# Altium footprint library REGULATOR.PcbLib: 10 footprints
Each footprint in its own frame and in the unit in brackets; x right, y up, seen from the top. Pads: shape width x height; smd on the part's side, far side on the other; paste and mask are expansions set on the pad; w line width, h text height; cw(c..) or ccw(c..) is an arc to the next point about the centre after c.
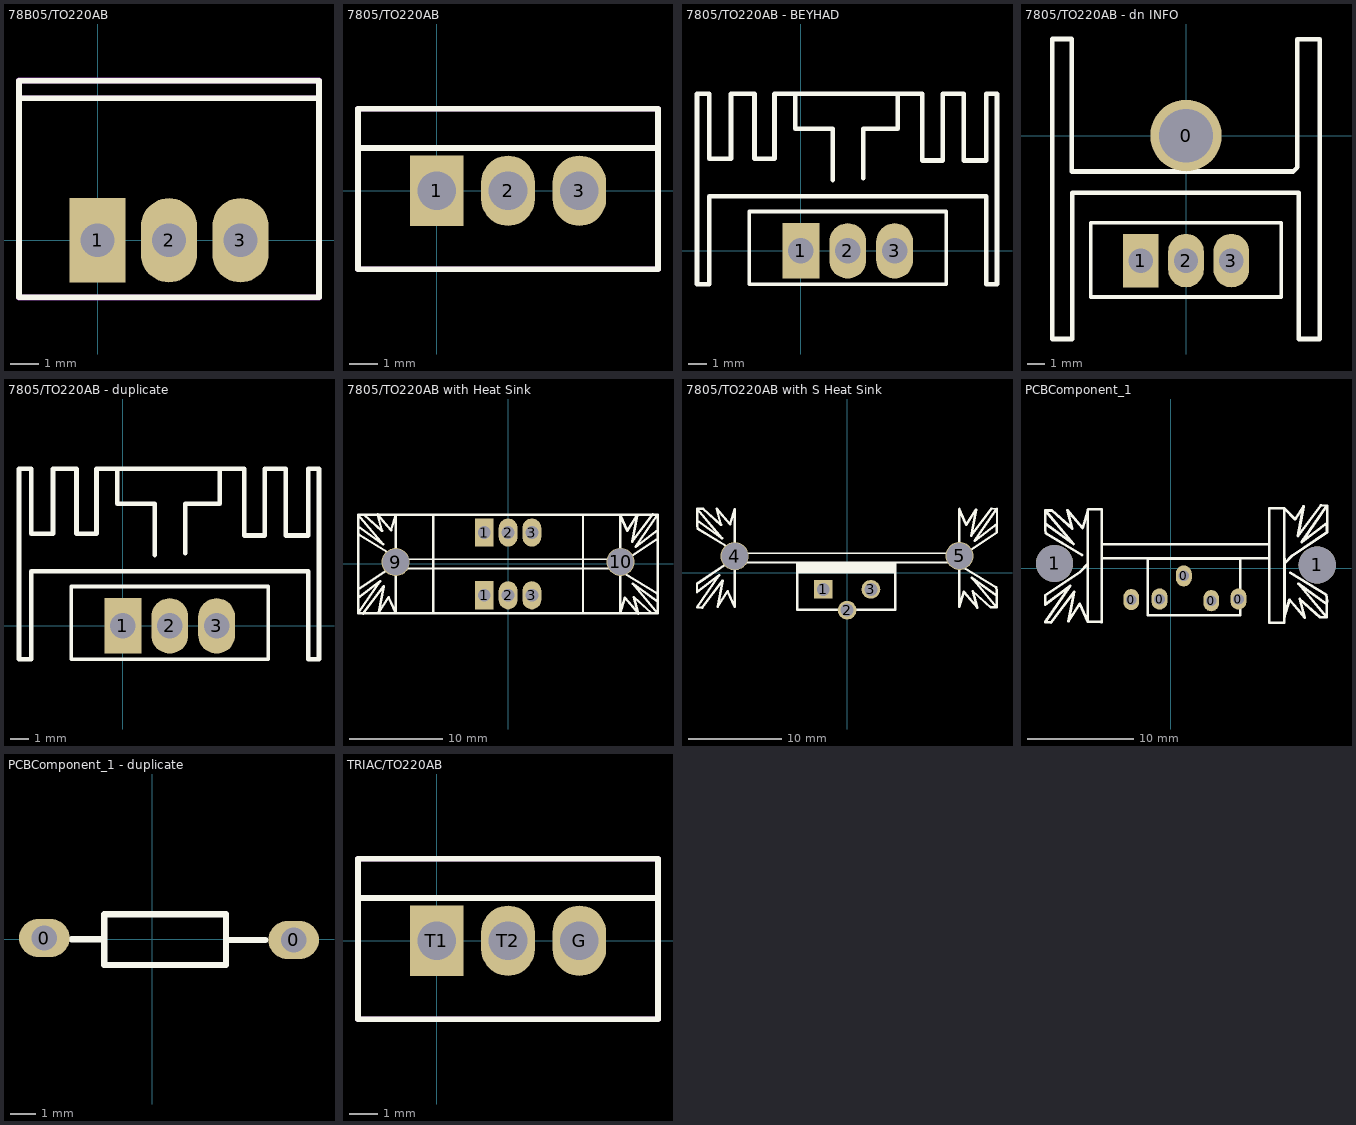
[diagram p0: the footprints below, top view; thin cyan lines are the x and y axes]

## 78B05/TO220AB [mm]
pads (3):
  rect 2x3 / inner round 1.524 / far side rect 2x3 hole 1.2: 1(0,0)
  oval 2x3 / inner round 1.524 / far side oval 2x3 hole 1.2: 2(2.54,0) 3(5.08,0)
Top Overlay:
  lines w0.203: -2.794,5.05 7.874,5.05 ; -2.794,-2.022 7.874,-2.022 7.874,5.669 -2.794,5.669 -2.794,-2.022
Mechanical 1:
  lines w0.203: -2.794,5.05 7.874,5.05 ; -2.794,-2.032 7.874,-2.032 7.874,5.679 -2.794,5.679 -2.794,-2.032

## 7805/TO220AB [mm]
pads (3):
  rect 1.905x2.5 hole 1.372: 1(0,0)
  oval 1.905x2.5 hole 1.372: 2(2.54,0) 3(5.08,0)
Top Overlay:
  lines w0.203: -2.794,1.524 7.874,1.524 ; -2.794,-2.794 7.874,-2.794 7.874,2.921 -2.794,2.921 -2.794,-2.794
Mechanical 1:
  lines w0.203: -2.794,1.524 7.874,1.524 ; -2.794,-2.794 7.874,-2.794 7.874,2.921 -2.794,2.921 -2.794,-2.794

## 7805/TO220AB - BEYHAD [mm]
pads (3):
  rect 2x3 hole 1.372: 1(0,0)
  oval 2x3 hole 1.372: 2(2.54,0) 3(5.08,0)
Top Overlay:
  lines w0.203: -2.794,-1.8 7.874,-1.8 7.874,2.13 -2.794,2.13 -2.794,-1.8
  lines w0.25: -0.304,8.46 -0.304,6.61 1.736,6.61 1.736,3.84 ; 3.376,3.93 3.376,6.61 5.256,6.61 5.256,8.46
  lines w0.254: -5.62,-1.8 -5.62,3.66 -5.62,8.5 -4.96,8.5 -4.96,4.99 -3.78,4.99 -3.78,8.5 -2.51,8.5 -2.51,4.99 -1.42,4.99 -1.42,8.5 1.01,8.5 5.05,8.5 6.58,8.5 6.58,4.89 7.68,4.89 7.68,8.5 8.82,8.5 8.82,4.89 10.04,4.89 10.04,8.5 10.62,8.5 10.62,-1.8 10.04,-1.8 10.04,2.96 -4.96,2.96 -4.96,-1.8 -5.62,-1.8

## 7805/TO220AB - dn INFO [mm]
pads (4):
  round 4 hole 3: 0(0,0)
  rect 2x3 hole 1.372: 1(-2.54,-7)
  oval 2x3 hole 1.372: 2(0,-7) 3(2.54,-7)
Top Overlay:
  lines w0.203: -5.334,-9.04 -5.334,-4.87 5.334,-4.87 5.334,-9.04 -5.334,-9.04
  lines w0.254: -6.059,-2.01 -3.96,-2.01 6.01,-2.01 6.24,-1.78 6.24,5.4 7.5,5.4 7.5,-3.92 7.5,-9.659 7.5,-11.39 6.32,-11.39 6.32,-3.19 -6.38,-3.19 -6.38,-11.39 -7.5,-11.39 -7.5,-4 -7.5,5.41 -6.39,5.41 -6.39,-2.01 -5.93,-2.01

## 7805/TO220AB - duplicate [mm]
pads (3):
  rect 2x3 hole 1.372: 1(0,0)
  oval 2x3 hole 1.372: 2(2.54,0) 3(5.08,0)
Top Overlay:
  lines w0.203: -2.794,-1.8 -2.794,2.13 7.874,2.13 7.874,-1.8 -2.794,-1.8
  lines w0.25: -0.304,8.46 -0.304,6.61 1.736,6.61 1.736,3.84 ; 3.376,3.93 3.376,6.61 5.256,6.61 5.256,8.46
  lines w0.254: -5.62,-1.8 -4.96,-1.8 -4.96,2.96 10.04,2.96 10.04,-1.8 10.62,-1.8 10.62,8.5 10.04,8.5 10.04,4.89 8.82,4.89 8.82,8.5 7.68,8.5 7.68,4.89 6.58,4.89 6.58,8.5 5.05,8.5 1.01,8.5 -1.42,8.5 -1.42,4.99 -2.51,4.99 -2.51,8.5 -3.78,8.5 -3.78,4.99 -4.96,4.99 -4.96,8.5 -5.62,8.5 -5.62,3.66 -5.62,-1.8

## 7805/TO220AB with Heat Sink [mm]
pads (8):
  rect 2x3 hole 1.372: 1(-2.54,-3.35) 1(-2.54,3.35)
  oval 2x3 hole 1.372: 2(0,-3.35) 2(0,3.35) 3(2.54,-3.35) 3(2.54,3.35)
  round 3 hole 2.8: 9(-12,0.19) 10(12,0.22)
Top Overlay:
  lines w0.203: -12,-0.5 -12,0.5 12,0.5 12,-0.5 -12,-0.5 ; 11.97,-0.52 11.97,0.48 11.97,-0.52
  lines w0.254: -12.55,1.06 -15.95,3.12 -16,3.44 ; -8.01,-5.26 ccw(c-8.034,-5.236) -8,-5.236 -8,-0.01 -8,5.206 cw(c-7.966,5.206) -7.99,5.23 ; 8,-5.22 8,-0.01 8,5.23 ; 11.02,5.23 15.97,5.23 ; 11.03,-5.27 15.97,-5.27 ; 11.05,5.25 16,5.25 16,3.56 16,-2.179 16,-5.25 11.04,-5.25 -11.05,-5.25 -16,-5.25 ; 12,-5.23 12,0.22 12,5.24 ; 12.52,-1.08 15.92,-3.14 15.97,-3.46 ; 14.55,5.25 -11.06,5.25 -16,5.25 ; -16,-5.25 -13.65,-1.84 -16.02,-3.64 -16.02,-2.75 -12.738,-0.548 -12,0.19 ; -16,-5.25 -15.46,-5.3 -13.28,-2.4 -13.81,-5.2 -12.75,-3.55 -12,-5.22 -12,0.19 ; -16,-5.25 -16,3.44 ; -16,3.44 -16.02,3.7 -15.98,4.01 -13.34,2.09 -16,5.25 ; -16,3.44 -16,5.25 ; -16,5.25 -15.37,5.25 -13.45,3.53 -13.93,5.28 -12.49,3.6 -12,5.2 -12,0.19 ; 11.97,-5.22 11.97,-0.21 ; 11.97,-5.22 12.46,-3.62 13.9,-5.3 13.42,-3.55 15.34,-5.27 15.97,-5.27 ; 11.97,-5.22 11.97,-0.21 ; 11.97,-0.21 11.97,5.2 ; 11.97,-0.21 12.708,0.528 ; 11.97,-0.21 12.708,0.528 ; 11.97,-0.21 11.97,5.2 ; 11.97,5.2 12.72,3.53 13.78,5.18 13.25,2.38 15.43,5.28 15.97,5.23 ; 12.708,0.528 15.99,2.73 15.99,3.62 13.62,1.82 15.97,5.23 ; 15.97,-5.27 13.31,-2.11 15.95,-4.03 15.99,-3.72 15.97,-3.46 ; 15.97,-5.27 15.97,-3.46 ; 15.97,-3.46 15.97,5.23

## 7805/TO220AB with S Heat Sink [mm]
pads (5):
  rect 2x2 hole 1.372: 1(-2.54,-1.785)
  round 2 hole 1.372: 2(0,-4) 3(2.54,-1.785)
  round 3 hole 2.8: 4(-12,1.755) 5(12,1.785)
Top Overlay:
  rectangle: -5.43,-0.075 5.17,1.085
  lines w0.203: -12,1.065 12,1.065 12,2.065 -12,2.065 -12,1.065 ; 11.97,1.045 11.97,2.045 11.97,1.045
  lines w0.254: -12.55,2.625 -15.95,4.685 -16,5.005 ; -5.32,1.055 -5.32,-3.975 5.16,-3.975 5.16,1.015 5.17,1.025 ; 12,-3.665 12,1.785 12,6.805 ; 12.52,0.485 15.92,-1.575 15.97,-1.895 ; 16,5.125 16,6.815 ; -16,5.005 -16,6.815 ; -16,5.005 -16.02,5.265 -15.98,5.575 -13.34,3.655 -16,6.815 ; -16,6.815 -15.37,6.815 -13.45,5.095 -13.93,6.845 -12.49,5.165 -12,6.765 -12,1.755 ; -12,1.755 -12,-3.655 -12.75,-1.985 -13.81,-3.635 -13.28,-0.835 -15.46,-3.735 -16,-3.685 -13.65,-0.275 -16.02,-2.075 -16.02,-1.185 -12.738,1.017 -12,1.755 ; 11.97,-3.655 11.97,1.355 ; 11.97,-3.655 12.46,-2.055 13.9,-3.735 13.42,-1.985 15.34,-3.705 15.97,-3.705 ; 11.97,-3.655 11.97,1.355 ; 11.97,1.355 11.97,6.765 ; 11.97,1.355 12.708,2.093 ; 11.97,1.355 12.708,2.093 ; 11.97,1.355 11.97,6.765 ; 11.97,6.765 12.72,5.095 13.78,6.745 13.25,3.945 15.43,6.845 15.97,6.795 13.62,3.385 15.99,5.185 15.99,4.295 12.708,2.093 ; 15.97,-3.705 15.97,-1.895 ; 15.97,-3.705 13.31,-0.545 15.95,-2.465 15.99,-2.155 15.97,-1.895

## PCBComponent_1 [mm]
pads (7):
  oval 1.5x2 hole 1: 0(-3.701,-2.937) 0(-1.034,-2.886) 0(1.252,-0.702) 0(3.842,-3.038) 0(6.408,-2.886)
  round 3.5 hole 3.5: 1(-10.93,0.47) 1(13.83,0.33)
Top Overlay:
  lines w0.203: 10.73,0.15 10.73,1.15
  lines w0.245: -7.8,-5.01 -6.57,-5.01 -6.5,-5.08 -6.5,5.58 -7.76,5.58 -7.8,5.54 -7.8,5.41 ; -6.47,0.95 9.3,0.95 ; -6.46,2.27 9.32,2.27 ; -2.158,0.921 -2.147,0.91 ; 10.73,-4.55 10.73,-5.11 ; 10.73,5.66 9.32,5.66 9.32,-5.11 10.73,-5.11 ; -2.147,0.91 6.585,0.91 6.585,-4.419 -2.147,-4.419 -2.147,0.91 ; 10.73,-5.11 10.73,-5.11
  lines w0.254: -8.35,1.27 -11.75,3.33 -11.8,3.65 ; 10.76,-4.56 10.76,0.89 ; 11.28,-0.41 14.68,-2.47 14.73,-2.79 ; 14.76,4.23 14.76,5.92 ; -11.8,3.65 -11.82,3.91 -11.78,4.22 -9.14,2.3 -11.8,5.46 ; -11.8,3.65 -11.8,5.46 ; -11.8,5.46 -11.17,5.46 -9.25,3.74 -9.73,5.49 -8.29,3.81 -7.8,5.41 -7.8,0.4 ; -7.8,0.4 -8.538,-0.338 -11.82,-2.54 -11.82,-3.43 -9.45,-1.63 -11.8,-5.04 -11.26,-5.09 -9.08,-2.19 -9.61,-4.99 -8.55,-3.34 -7.8,-5.01 -7.8,0.4 ; 10.73,-4.55 10.73,0.46 ; 10.73,-4.55 11.22,-2.95 12.66,-4.63 12.18,-2.88 14.1,-4.6 14.73,-4.6 ; 10.73,-4.55 10.73,0.46 ; 10.73,0.46 10.73,5.66 11.758,4.632 12.54,5.85 12.01,3.05 14.19,5.95 14.73,5.9 12.38,2.49 14.75,4.29 14.75,3.4 11.468,1.198 ; 10.73,0.46 11.468,1.198 ; 10.73,0.46 11.468,1.198 ; 14.73,-4.6 12.07,-1.44 14.71,-3.36 14.75,-3.05 14.73,-2.79 ; 14.73,-4.6 14.73,-2.79
Drill Drawing:
  drawing of 715 lines, arcs and shapes, not listed

## PCBComponent_1 - duplicate [mm]
pads (2):
  oval 2x1.5 hole 1: 0(-4.247,0.041) 0(5.583,-0.035)
Top Overlay:
  lines w0.245: -3.18,-0.01 -1.885,-0.01 ; 4.465,-0.035 2.916,-0.035 ; -1.885,-0.01 -1.885,-1.026 2.916,-1.026 2.916,-0.035 ; -1.885,-0.01 -1.885,0.981 2.916,0.981 2.916,-0.035
Drill Drawing:
  drawing of 200 lines, arcs and shapes, not listed

## TRIAC/TO220AB [mm]
pads (3):
  oval 1.905x2.5 hole 1.372: G(5.08,0) T2(2.54,0)
  rect 1.905x2.5 hole 1.372: T1(0,0)
Top Overlay:
  lines w0.203: -2.794,1.524 7.874,1.524 ; -2.794,-2.794 7.874,-2.794 7.874,2.921 -2.794,2.921 -2.794,-2.794
Mechanical 1:
  lines w0.203: -2.794,1.524 7.874,1.524 ; -2.794,-2.794 7.874,-2.794 7.874,2.921 -2.794,2.921 -2.794,-2.794